# Altium footprint library mcu.PcbLib: 26 footprints (part 2 of 2)
Each footprint in its own frame and in the unit in brackets; x right, y up, seen from the top. Pads: shape width x height; smd on the part's side, far side on the other; paste and mask are expansions set on the pad; w line width, h text height; cw(c..) or ccw(c..) is an arc to the next point about the centre after c.
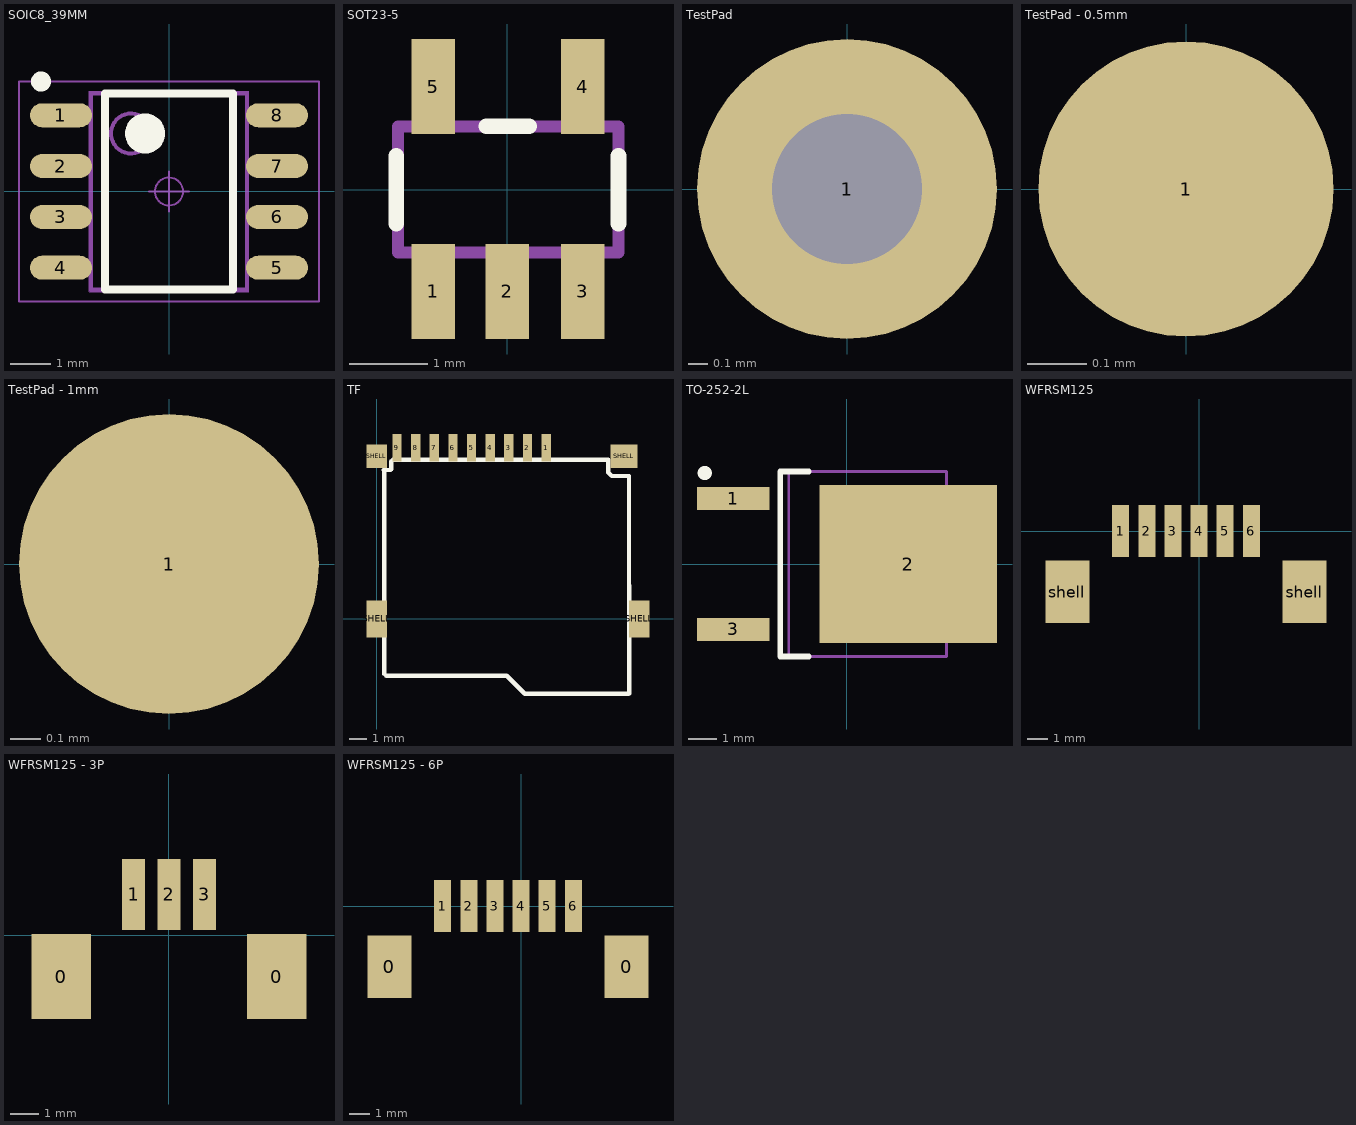
[diagram p1: the footprints below, top view; thin cyan lines are the x and y axes]

## SOIC8_39MM [mm]
pads (8):
  oval 1.55x0.6 smd: 1(-2.7,1.905) 2(-2.7,0.635) 3(-2.7,-0.635) 4(-2.7,-1.905) 5(2.7,-1.905) 6(2.7,-0.635) 7(2.7,0.635) 8(2.7,1.905)
Top Overlay:
  circle w0.5: c-0.6,1.45 r0.25
  circle w0.25: c-3.2,2.75 r0.125
  lines w0.2: -1.6,-2.45 1.6,-2.45 1.6,2.45 -1.6,2.45 -1.6,-2.45
Mechanical 15:
  circle w0.1: c-0.95,1.45 r0.5
  lines w0.1: -1.95,-2.45 1.95,-2.45 1.95,2.45 -1.95,2.45 -1.95,-2.45
  text "1" at 0.45,-0.164 h0.75
Mechanical 16:
  circle w0.05: c0,0 r0.35
  lines w0.001: -2,-2.5 2,-2.5 2,2.5 -2,2.5 -2,-2.5
  lines w0.05: -0.5,0 0.5,0 ; 0,-0.5 0,0.5 ; -3.75,-2.75 3.75,-2.75 3.75,2.75 -3.75,2.75 -3.75,-2.75

## SOT23-5 [mil] "SOT23-5"
pads (5):
  rect 22x48 smd: 1(-37.4,-51.19) 2(0,-51.19) 3(38,-51.19) 4(38,52) 5(-37.4,52)
Top Overlay:
  lines w8: -56,-16.91 -56,17 ; -10.57,32 11,32 ; 56,-16.91 56,17
Mechanical 16:
  rectangle: -47.25,34 -27.56,60
  rectangle: 28,34 48,60
  rectangle: 28,-59.06 48,-33.46
  rectangle: -9.84,-59.06 10,-33.47
  rectangle: -47.24,-59.06 -27.56,-33.47
  lines w1: -55.12,-31.5 -55.12,32 56,32 56,-31.5 -55.12,-31.5
  lines w6: -55.12,-31.5 -55.12,32 56,32 56,-31.5 -55.12,-31.5
3D body "SOT-23-5.STEP": height 47.24, standoff 0, extent -57.08,-55.12 57.09,55.12

## TestPad [mil]
pads (1):
  round 60 hole 30: 1(0,0)

## TestPad - 0.5mm [mm]
pads (1):
  round 0.5 smd: 1(0,0)

## TestPad - 1mm [mm]
pads (1):
  round 1 smd: 1(0,0)

## TF [mm]
pads (13):
  rect 0.55x1.6 smd: 1(10,10.1) 2(8.9,10.1) 3(7.8,10.1) 4(6.7,10.1) 5(5.6,10.1) 6(4.5,10.1) 7(3.4,10.1) 8(2.3,10.1) 9(1.2,10.1)
  rect 1.2x2.2 smd: SHELL(0,0) SHELL(15.5,0)
  rect 1.2x1.4 smd: SHELL(0,9.6)
  rect 1.6x1.4 smd: SHELL(14.6,9.6)
Top Overlay:
  lines w0.254: 0.406,8.788 0.813,8.788 0.864,8.839 0.864,9.296 0.965,9.398 13.665,9.398 13.665,8.636 13.868,8.433 14.884,8.433 14.9,-4.4 ; 0.457,-3.251 0.457,8.738 ; 0.559,-3.353 7.671,-3.353 8.738,-4.42 14.88,-4.42

## TO-252-2L [mm]
pads (3):
  rect 2.55x0.8 smd: 1(-4,2.3) 3(-4,-2.3)
  rect 6.25x5.55 smd: 2(2.15,0)
Top Overlay:
  circle w0.25: c-5,3.2 r0.125
  lines w0.2: -1.35,-3.25 -2.35,-3.25 -2.35,3.25 -1.35,3.25
Mechanical 15:
  lines w0.1: 3.5,-2.668 3.946,-2.668 4.85,-1.666 4.85,1.666 3.946,2.668 3.5,2.668 ; -2.05,-3.25 3.5,-3.25 3.5,3.25 -2.05,3.25 -2.05,-3.25
Mechanical 16:
  circle w0.05: c0,0 r0.35

## WFRSM125 [mm]
pads (8):
  rect 0.81x2.5 smd: 1(-3.75,0) 2(-2.5,0) 3(-1.25,0) 4(0,0) 5(1.25,0) 6(2.5,0)
  rect 2.1x3 smd: shell(-6.3,-2.9) shell(5.05,-2.9)
3D body: height 3.4, standoff 0, extent -6.789,-3.819 5.461,0.381

## WFRSM125 - 3P [mm]
pads (5):
  rect 2.1x3 smd: 0(-3.8,-1.45) 0(3.8,-1.45)
  rect 0.81x2.5 smd: 1(-1.25,1.45) 2(0,1.45) 3(1.25,1.45)
3D body: height 3.4, standoff 0, extent -4.289,-2.369 4.034,1.831

## WFRSM125 - 6P [mm]
pads (8):
  rect 2.1x3 smd: 0(-6.3,-2.9) 0(5.05,-2.9)
  rect 0.81x2.5 smd: 1(-3.75,0) 2(-2.5,0) 3(-1.25,0) 4(0,0) 5(1.25,0) 6(2.5,0)
3D body: height 3.4, standoff 0, extent -6.789,-3.819 5.461,0.381